# Altium footprint library PcbLib1.PcbLib: 39 footprints (part 1 of 3)
Each footprint in its own frame and in the unit in brackets; x right, y up, seen from the top. Pads: shape width x height; smd on the part's side, far side on the other; paste and mask are expansions set on the pad; w line width, h text height; cw(c..) or ccw(c..) is an arc to the next point about the centre after c.
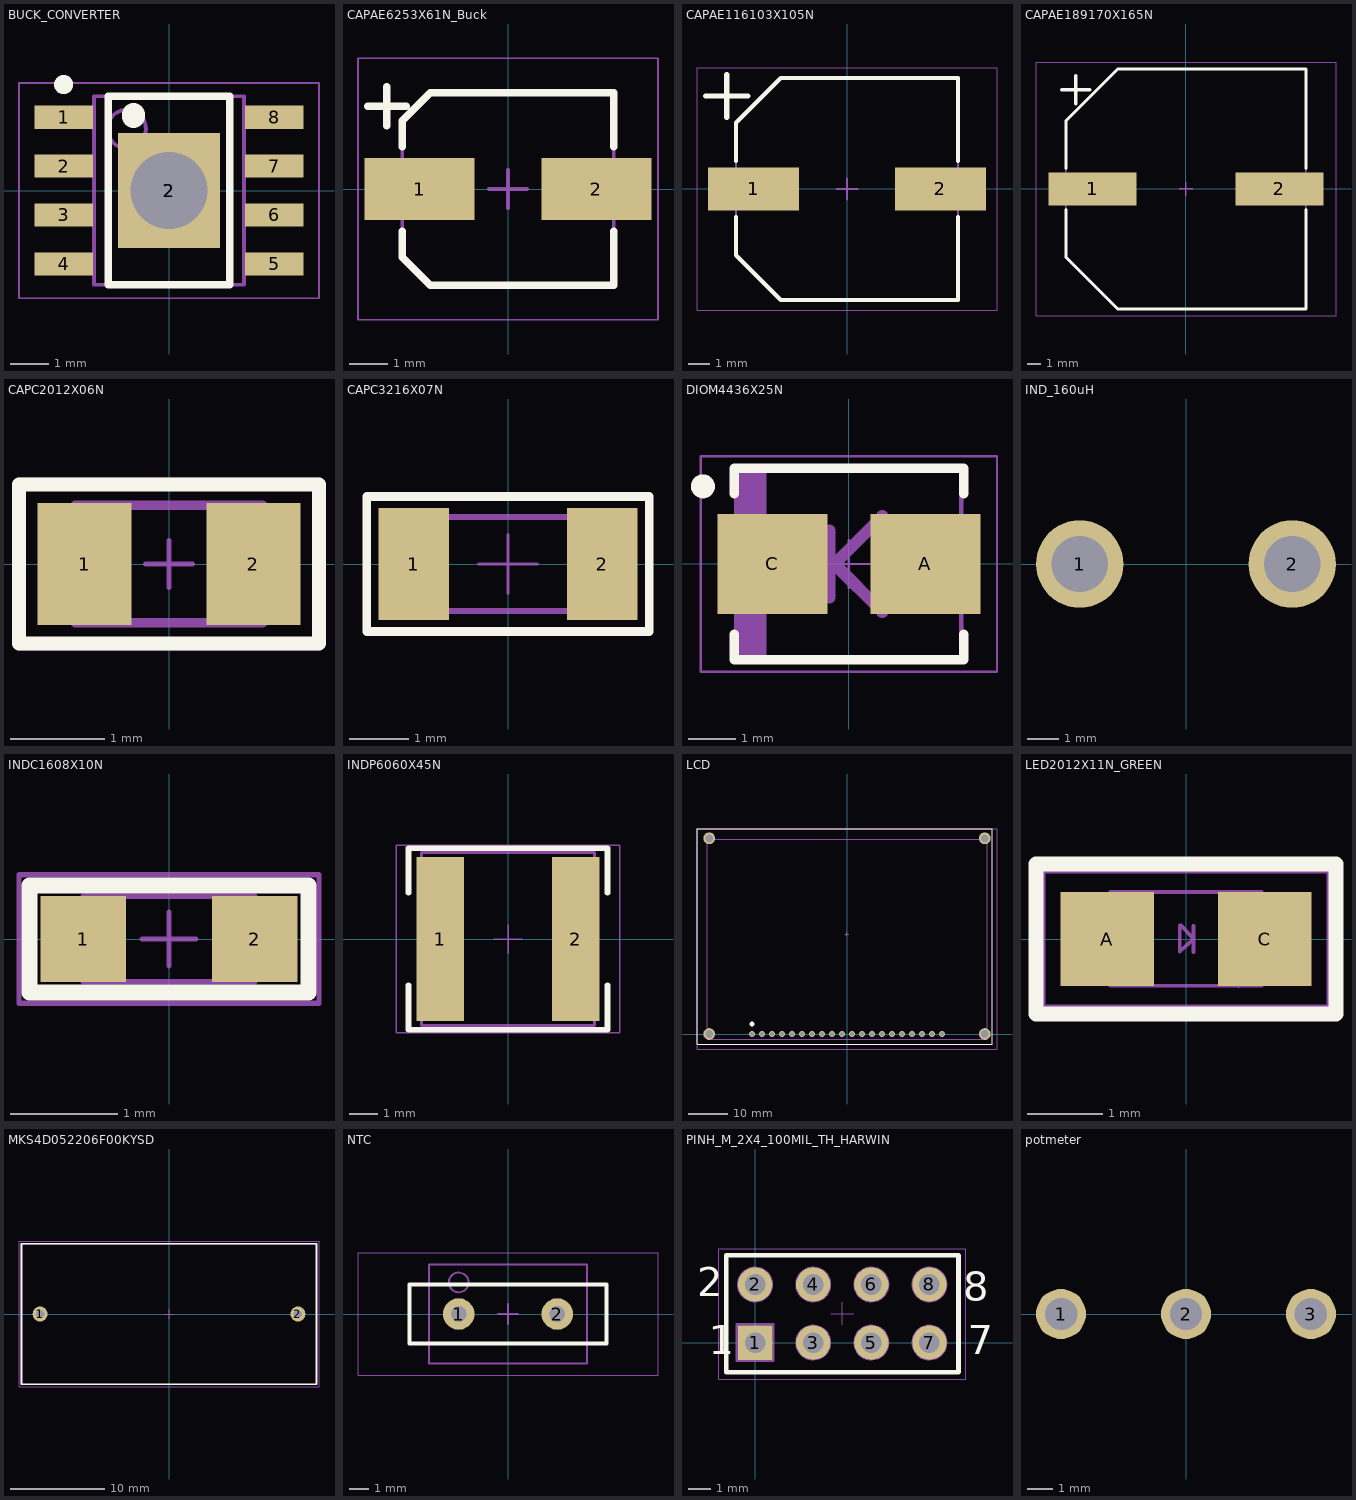
[diagram p0: the footprints below, top view; thin cyan lines are the x and y axes]

## BUCK_CONVERTER [mm] "SOIC, 8-Leads, Body 4.9x3.9mm, Pitch 1.27mm"
height 1.75
pads (10):
  rect 1.52x0.6 smd: 1(-2.74,1.905) 2(-2.74,0.635) 3(-2.74,-0.635) 4(-2.74,-1.905) 5(2.74,-1.905) 6(2.74,-0.635) 7(2.74,0.635) 8(2.74,1.905)
  rect 2.65x3 smd: 2(0,0)
  round 2.5 hole 2: 2(0,0)
Top Overlay:
  circle w0.25: c-2.74,2.755 r0.125
  lines w0.2: -1.58,-2.45 -1.58,2.45 1.58,2.45 1.58,-2.45 -1.58,-2.45
  lines w0.6: -0.925,1.925 ccw(c-1.22,1.979) -0.92,1.979
Mechanical 11:
  text ".Designator" at -4,0.5 h1
Mechanical 14:
  circle w0.1: c-1.1,1.6 r0.5
  lines w0.1: -1.95,-2.45 -1.95,2.45 1.95,2.45 1.95,-2.45 -1.95,-2.45
Mechanical 15:
  lines w0.05: -0.5,0 0.5,0 ; 0,-0.5 0,0.5 ; -3.9,-2.8 -3.9,2.8 3.9,2.8 3.9,-2.8 -3.9,-2.8
3D body: height 1.75, standoff 0.1, extent -1.95,-2.45 1.95,2.45

## CAPAE6253X61N_Buck [mm] "Aluminum Electrolytic Capacitor, Body 5,30x5,30x6,10mm, IPC Medium Density"
height 6.1
pads (2):
  rect 2.85x1.6 smd: 1(-2.3,0) 2(2.3,0)
Top Overlay:
  lines w0.2: -3.65,2.15 -2.65,2.15 ; -3.15,1.65 -3.15,2.65 ; -2.75,-1.1 -2.75,-1.775 -2.025,-2.5 2.75,-2.5 2.75,-1.1 ; -2.75,1.1 -2.75,1.775 -2.025,2.5 2.75,2.5 2.75,1.1
Mechanical 11:
  text ".Designator" at -2.37,-0.625 h1
Mechanical 14:
  lines w0.1: -3.65,2.15 -2.65,2.15 ; -3.15,1.65 -3.15,2.65 ; -2.75,-1.775 -2.025,-2.5 2.75,-2.5 2.75,2.5 -2.025,2.5 -2.75,1.775 -2.75,-1.775
Mechanical 15:
  lines w0.05: -3.9,-3.4 -3.9,3.4 3.9,3.4 3.9,-3.4 -3.9,-3.4
  lines w0.1: -0.5,0 0.5,0 ; 0,-0.5 0,0.5
3D body "CAPAE6253X61N.step": height 6.1, standoff 0, extent -3.125,-2.75 3.125,2.75

## CAPAE116103X105N [mm] "Aluminum Electrolytic Capacitor, Body 10,30x10,30x10,50mm, IPC Medium Density"
height 10.5
pads (2):
  rect 4.3x2.05 smd: 1(-4.425,0) 2(4.425,0)
Top Overlay:
  lines w0.2: -5.25,-1.325 -5.25,-3.138 -3.137,-5.25 5.25,-5.25 5.25,-1.325 ; -5.25,1.325 -5.25,3.137 -3.137,5.25 5.25,5.25 5.25,1.325
  lines w0.254: -6.7,4.4 -4.7,4.4 ; -5.7,3.4 -5.7,5.4
Mechanical 11:
  text ".Designator" at -1.2,2.7 h1
Mechanical 14:
  lines w0.1: -5.25,-3.138 -3.137,-5.25 5.25,-5.25 5.25,5.25 -3.137,5.25 -5.25,3.137 -5.25,-3.138
Mechanical 15:
  lines w0.05: -7.1,-5.75 -7.1,5.75 7.1,5.75 7.1,-5.75 -7.1,-5.75
  lines w0.1: -0.5,0 0.5,0 ; 0,-0.5 0,0.5
3D body: height 3.5, standoff 0, extent -5.25,-5.25 5.25,5.25
3D body: height 10.5, standoff 0, extent -5,-5 5,4.997

## CAPAE189170X165N [mm] "Aluminum Electrolytic Capacitor, Body 17,00x17,00x16,50mm, IPC Medium Density"
height 16.5
pads (2):
  rect 6.3x2.35 smd: 1(-6.7,0) 2(6.7,0)
Top Overlay:
  lines w0.2: -8.6,-1.475 -8.6,-4.888 -4.888,-8.6 8.6,-8.6 8.6,-1.475 ; -8.6,1.475 -8.6,4.887 -4.888,8.6 8.6,8.6 8.6,1.475
  lines w0.254: -8.9,7.1 -6.9,7.1 ; -7.9,6.1 -7.9,8.1
Mechanical 11:
  text ".Designator" at -4.39,10.25 h1
Mechanical 14:
  lines w0.1: -8.6,-4.888 -8.6,4.887 -4.888,8.6 8.6,8.6 8.6,-8.6 -4.888,-8.6 -8.6,-4.888
Mechanical 15:
  lines w0.05: -10.75,-9.1 10.75,-9.1 10.75,9.1 -10.75,9.1 -10.75,-9.1
  lines w0.1: -0.5,0 0.5,0 ; 0,-0.5 0,0.5
3D body: height 16.5, standoff 0, extent -8.25,-8.25 8.25,8.245
3D body: height 5.5, standoff 0, extent -8.6,-8.6 8.6,8.6

## CAPC2012X06N [mm] "Chip Capacitor, 2-Leads, Body 2,00x1,25mm, IPC Low Density"
height 0.6
pads (2):
  rect 1x1.3 smd: 1(-0.9,0) 2(0.9,0)
Top Overlay:
  lines w0.15: -1.6,-0.85 -1.6,0.85 1.6,0.85 1.6,-0.85 -1.6,-0.85
Mechanical 11:
  text ".Designator" at -1.6,1.1 h0.3
Mechanical 14:
  lines w0.1: -0.6,-0.625 -0.6,0.625 ; 0.6,-0.625 0.6,0.625 ; -1,-0.625 1,-0.625 1,0.625 -1,0.625 -1,-0.625
Mechanical 15:
  lines w0.05: -0.25,0 0.25,0 ; 0,-0.25 0,0.25 ; -1.6,-0.9 -1.6,0.9 1.6,0.9 1.6,-0.9 -1.6,-0.9
3D body "0805Cap.step": height 0.78, standoff 0, extent -1,-0.625 1,0.625

## CAPC3216X07N [mm] "Chip Capacitor, 2-Leads, Body 3,10x1,60mm, IPC Low Density"
pads (2):
  rect 1.2x1.9 smd: 1(-1.6,0) 2(1.6,0)
Top Overlay:
  lines w0.15: -2.4,-1.15 2.4,-1.15 2.4,1.15 -2.4,1.15 -2.4,-1.15
Mechanical 11:
  text ".Designator" at -2.2,1.5 h0.3
Mechanical 14:
  lines w0.1: -1.2,-0.8 -1.2,0.8 ; 1.2,-0.8 1.2,0.8 ; -1.6,-0.8 -1.6,0.8 1.6,0.8 1.6,-0.8 -1.6,-0.8
Mechanical 15:
  lines w0.05: -0.5,0 0.5,0 ; 0,-0.5 0,0.5 ; -2.4,-1.1 2.4,-1.1 2.4,1.1 -2.4,1.1 -2.4,-1.1
3D body "C1206.STEP": height 1, standoff 0, extent -1.56,-0.8 1.64,0.8

## DIOM4436X25N [mm] "Molded Diode, 2-Leads, Body 4,38x3,62mm, IPC Medium Density"
height 2.5
pads (2):
  rect 2.3x2.1 smd: A(1.6,0) C(-1.6,0)
Top Overlay:
  circle w0.25: c-3.05,1.625 r0.125
  lines w0.2: -2.4,-1.475 -2.4,-2 2.4,-2 2.4,-1.475 ; -2.4,1.475 -2.4,2 2.4,2 2.4,1.475
Mechanical 11:
  text ".Designator" at -1.25,-0.1 h0.3
Mechanical 14:
  rectangle: -2.35,-1.97 -1.718,1.97
  lines w0.1: -2.35,-1.97 2.35,-1.97 2.35,1.97 -2.35,1.97 -2.35,-1.97
  lines w0.254: -0.4,-0.7 -0.4,0.7 ; -0.3,0 -0.2,0.1 0.7,1 0.7,-1 -0.3,0
Mechanical 15:
  lines w0.05: -0.5,0 0.5,0 ; 0,-0.5 0,0.5 ; -3.1,-2.25 3.1,-2.25 3.1,2.25 -3.1,2.25 -3.1,-2.25
3D body "DO-214AA_SMB.step": height 2.24, standoff -0.01, extent -2.65,-1.85 2.65,1.85

## IND_160uH [mm]
pads (2):
  round 2.8 hole 1.8: 1(-3.4,0) 2(3.4,0)
Mechanical 11:
  text ".Designator" at -4,4.25 h1

## INDC1608X10N [mm] "Chip Inductor, 2-Leads, Body 1,60x0,80mm, IPC Medium Density"
pads (2):
  rect 0.8x0.8 smd mask+0.05: 1(-0.8,0) 2(0.8,0)
Top Overlay:
  lines w0.15: -1.3,-0.5 -1.3,0.5 1.3,0.5 1.3,-0.5 -1.3,-0.5
Mechanical 11:
  text ".Designator" at -1.4,0.8 h0.3
Mechanical 14:
  lines w0.05: -0.6,-0.4 -0.6,0.4 ; 0.6,-0.4 0.6,0.4 ; -0.8,-0.4 0.8,-0.4 0.8,0.4 -0.8,0.4 -0.8,-0.4
Mechanical 15:
  lines w0.05: -0.25,0 0.25,0 ; 0,-0.25 0,0.25 ; -1.4,-0.6 1.4,-0.6 1.4,0.6 -1.4,0.6 -1.4,-0.6
3D body "L0603.STEP": height 0.95, standoff 0, extent -0.8,-0.4 0.8,0.4

## INDP6060X45N [mm] "Precision Wire Wound Inductor, 2-Leads, Body 6,00x6,00mm, IPC Medium Density"
height 4.5
pads (2):
  rect 1.65x5.7 smd: 1(-2.35,0) 2(2.35,0)
Top Overlay:
  lines w0.2: -3.45,-1.6 -3.45,-3.15 3.45,-3.15 3.45,-1.6 ; -3.45,1.6 -3.45,3.15 3.45,3.15 3.45,1.6
Mechanical 11:
  text ".Designator" at -1.6,-0.1 h0.3
Mechanical 14:
  lines w0.1: -3,-3 3,-3 3,3 -3,3 -3,-3
Mechanical 15:
  lines w0.05: -0.5,0 0.5,0 ; 0,-0.5 0,0.5 ; -3.875,-3.25 3.875,-3.25 3.875,3.25 -3.875,3.25 -3.875,-3.25
3D body: height 4.5, standoff 0, extent -3,-3 3,3

## LCD [mm]
pads (24):
  round 1.5 hole 1: 1(-24.13,0) 2(-21.59,0) 3(-19.05,0) 4(-16.51,0) 5(-13.97,0) 6(-11.43,0) 7(-8.89,0) 8(-6.35,0) 9(-3.81,0) 10(-1.27,0) 11(1.27,0) 12(3.81,0) 13(6.35,0) 14(8.89,0) 15(11.43,0) 16(13.97,0) 17(16.51,0) 18(19.05,0) 19(21.59,0) 20(24.13,0)
  round 3 hole 2: ""(-35,0) ""(-35,49.7) ""(35,0) ""(35,49.7)
Top Overlay:
  circle w0.6: c-24.13,2.54 r0.3
  lines w0.2: -38.1,-2.54 36.83,-2.54 36.83,52.07 -38.1,52.07 -38.1,-2.54
Mechanical 11:
  text ".Designator" at -8.89,57.15 h1
Mechanical 14:
  circle w0.1: c-24.13,2.54 r0.5
  lines w0.1: -35.56,-1.27 35.56,-1.27 35.56,49.53 -35.56,49.53 -35.56,-1.27
Mechanical 15:
  lines w0.05: -38.1,-3.81 38.1,-3.81 38.1,52.07 -38.1,52.07 -38.1,-3.81
  lines w0.1: -0.54,25.4 0.46,25.4 ; -0.04,24.9 -0.04,25.9
3D body "alsrobot-LCD 128x64.STEP": height 8.51, standoff 0.01, extent -37.5,-2.5 37.5,50.2

## LED2012X11N_GREEN [mm] "Chip LED, 2-Leads, Body 2.00x1.25mm, IPC Low Density"
height 1.1
pads (2):
  rect 1.25x1.25 smd: A(-1.05,0) C(1.05,0)
Top Overlay:
  lines w0.2: -2,-1 -2,1 2,1 2,-1 -2,-1
Mechanical 11:
  text ".Designator" at -1.8,1.2 h1
Mechanical 14:
  lines w0.05: -0.7,-0.625 -0.7,0.625 ; -0.083,0.183 -0.083,-0.166 0.1,0 -0.066,0.183 ; 0.1,-0.175 0.1,0.174 ; 0.7,-0.625 0.7,0.625 ; -1.01,-0.625 -1.01,0.625 1.01,0.625 1.01,-0.625 -1.01,-0.625
Mechanical 15:
  lines w0.05: -1.9,-0.9 1.9,-0.9 1.9,0.9 -1.9,0.9 -1.9,-0.9
3D body "User Library-led_0805GREEN.step": height 1.1, standoff 0, extent -1.01,-0.625 1.01,0.625

## MKS4D052206F00KYSD [mm]
pads (2):
  round 1.6 hole 0.9: 1(-13.75,0) 2(13.75,0)
Top Overlay:
  lines w0.2: -15.75,-7.5 -15.75,7.5 15.75,7.5 15.75,-7.5 -15.75,-7.5
Mechanical 11:
  text ".Designator" at -5.86,9.265 h1
Mechanical 14:
  lines w0.1: -15.75,-7.5 -15.75,7.5 15.75,7.5 15.75,-7.5 -15.75,-7.5
Mechanical 15:
  lines w0.05: -16,-7.75 -16,7.75 16,7.75 16,-7.75 -16,-7.75
  lines w0.1: -0.5,0 0.5,0 ; 0,-0.5 0,0.5
3D body: height 26, standoff 0, extent -15.75,-7.5 15.75,7.5

## NTC [mm]
pads (2):
  round 1.6 hole 0.8: 1(-2.5,0) 2(2.5,0)
Top Overlay:
  lines w0.2: -5,-1.5 -5,1.5 5,1.5 5,-1.5 -5,-1.5
Mechanical 11:
  text ".Designator" at -4.86,2.765 h1
Mechanical 14:
  circle w0.1: c-2.5,1.6 r0.5
  lines w0.1: -4,-2.5 -4,2.5 4,2.5 4,-2.5 -4,-2.5
Mechanical 15:
  lines w0.05: -7.6,-3.1 -7.6,3.1 7.6,3.1 7.6,-3.1 -7.6,-3.1
  lines w0.1: -0.5,0 0.5,0 ; 0,-0.5 0,0.5
3D body "User Library-B57153.STEP": height 21.5, standoff -10, extent -7.5,-3 7.5,3

## PINH_M_2X4_100MIL_TH_HARWIN [mm]
height 8.64
pads (8):
  rect 1.5x1.5 hole 0.9: 1(0,0)
  round 1.5 hole 0.9: 2(0,2.54) 3(2.54,0) 4(2.54,2.54) 5(5.08,0) 6(5.08,2.54) 7(7.62,0) 8(7.62,2.54)
Top Overlay:
  lines w0.2: -1.27,-1.29 8.89,-1.29 8.89,3.81 -1.27,3.81 -1.27,-1.29
  text "2" at -2.54,2.032 h1.27
  text "1" at -2.032,-0.508 h1.27
  text "7" at 9.304,-0.508 h1.27
  text "8" at 9.101,1.829 h1.27
Mechanical 11:
  text ".Designator" at 1.27,1.27 h1
Mechanical 14:
  circle w0.1: c2.54,2.54 r0.738
  circle w0.1: c0,2.54 r0.738
  circle w0.1: c5.08,2.54 r0.738
  circle w0.1: c7.62,2.54 r0.738
  circle w0.1: c7.62,0 r0.738
  circle w0.1: c2.54,0 r0.738
  circle w0.1: c5.08,0 r0.738
  lines w0.1: -1.27,-1.29 8.89,-1.29 8.89,3.81 -1.27,3.81 -1.27,-1.29 ; -0.8,-0.8 0.8,-0.8 0.8,0.8 -0.8,0.8 -0.8,-0.8
Mechanical 15:
  lines w0.05: 3.31,1.27 4.31,1.27 ; 3.81,0.77 3.81,1.77 ; -1.6,-1.6 9.2,-1.6 9.2,4.1 -1.6,4.1 -1.6,-1.6
3D body "m20-9980446_asm.stp": height 8.65, standoff -3.03, extent -1.27,-1.27 8.89,3.81

## potmeter [mm]
pads (3):
  round 2 hole 1.3: 1(-5,0) 2(0,0) 3(5,0)